# Altium schematic symbol library SCH - POWER - LINEAR VREG - TI TLV1117_DRJ_8.SchLib: 1 symbol
Pins are listed as number, name and electrical type; pins without a type are passive.

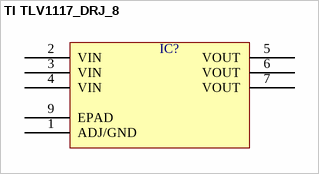
[diagram p0: symbol TI TLV1117_DRJ_8]

## TI TLV1117_DRJ_8
designator IC?  (value not drawn)
pins: 1 ADJ/GND, 2 VIN, 3 VIN, 4 VIN, 5 VOUT, 6 VOUT, 7 VOUT, 9 EPAD